# EAGLE library part DRV8332 (library piccoli)
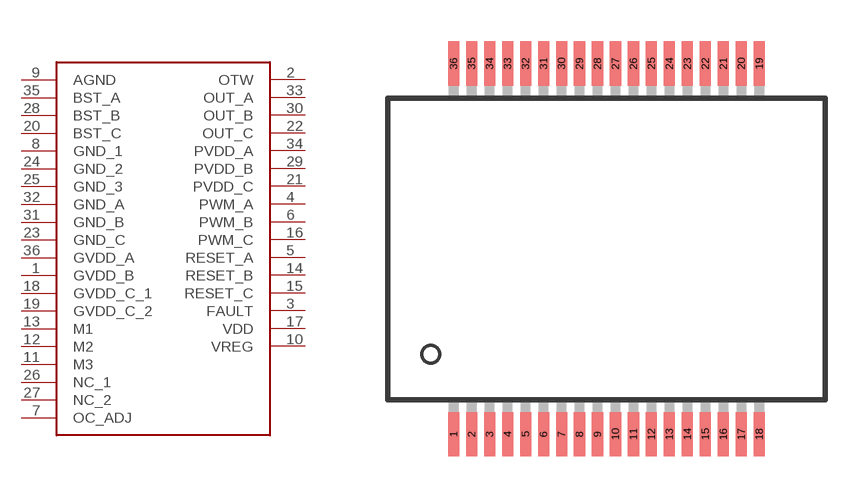
[diagram p3: symbol with the pads of PSOP3-DKD-36; footprint PSOP3-DKD-36]

Designator prefix -

## DRV8332  [PSOP3-DKD-36]
1  GVDD_B  pwr
2  OTW  out
3  FAULT  out
4  PWM_A  in
5  RESET_A  in
6  PWM_B  in
7  OC_ADJ  out
8  GND_1  pwr
9  AGND  pwr
10  VREG  pwr
11  M3  in
12  M2  in
13  M1  in
14  RESET_B  in
15  RESET_C  in
16  PWM_C  in
17  VDD  pwr
18  GVDD_C_1  pwr
19  GVDD_C_2  pwr
20  BST_C  pwr
21  PVDD_C  pwr
22  OUT_C  out
23  GND_C  pwr
24  GND_2  pwr
25  GND_3  pwr
26  NC_1  nc
27  NC_2  nc
28  BST_B  pwr
29  PVDD_B  pwr
30  OUT_B  out
31  GND_B  pwr
32  GND_A  pwr
33  OUT_A  out
34  PVDD_A  pwr
35  BST_A  pwr
36  GVDD_A  pwr

## Footprint PSOP3-DKD-36 (pad centres in mm)
smd 0.4 x 1.6: 1 -5.525,-6.7; 2 -4.875,-6.7; 3 -4.225,-6.7; 4 -3.575,-6.7; 5 -2.925,-6.7; 6 -2.275,-6.7; 7 -1.625,-6.7; 8 -0.975,-6.7; 9 -0.325,-6.7; 10 0.325,-6.7; 11 0.975,-6.7; 12 1.625,-6.7; 13 2.275,-6.7; 14 2.925,-6.7; 15 3.575,-6.7; 16 4.225,-6.7; 17 4.875,-6.7; 18 5.525,-6.7; 19 5.525,6.7; 20 4.875,6.7; 21 4.225,6.7; 22 3.575,6.7; 23 2.925,6.7; 24 2.275,6.7; 25 1.625,6.7; 26 0.975,6.7; 27 0.325,6.7; 28 -0.325,6.7; 29 -0.975,6.7; 30 -1.625,6.7; 31 -2.275,6.7; 32 -2.925,6.7; 33 -3.575,6.7; 34 -4.225,6.7; 35 -4.875,6.7; 36 -5.525,6.7